# Altium footprint library PCB - CAPACITOR - ALUMINIUM - CAP ALSMD ELEC 8.3MM H10.2MM.pcblib: 1 footprints
Each footprint in its own frame and in the unit in brackets; x right, y up, seen from the top. Pads: shape width x height; smd on the part's side, far side on the other; paste and mask are expansions set on the pad; w line width, h text height; cw(c..) or ccw(c..) is an arc to the next point about the centre after c.
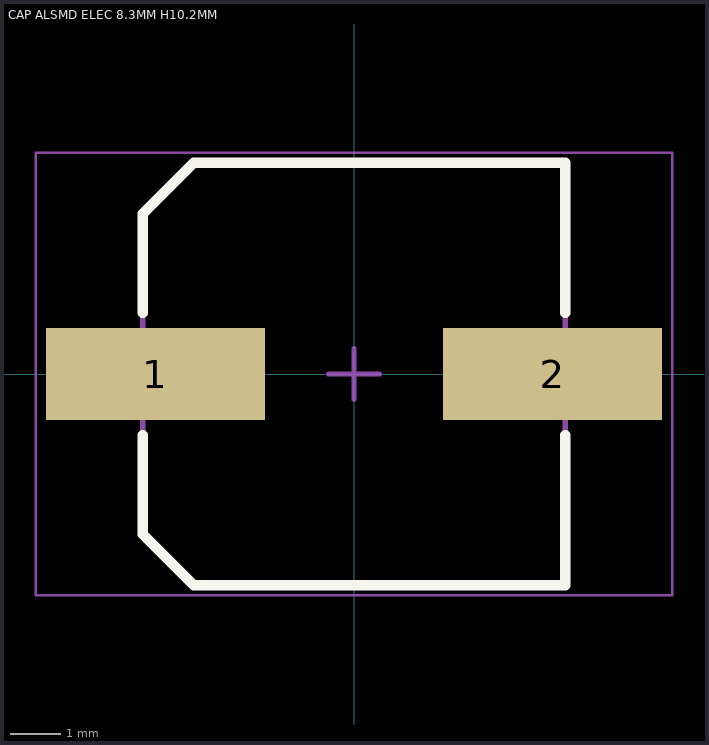
[diagram p0: the footprint, top view; thin cyan lines are the x and y axes]

## CAP ALSMD ELEC 8.3MM H10.2MM [mm] "Aluminum SMD Electrolytic Capacitor, 8.30mm Land Size, 8.00mm Diameter, 10.20mm Height, 10.00mm Maximum Leads Span"
height 0.9
pads (2):
  rect 4.3x1.8 smd: 1(-3.9,0) 2(3.9,0)
Top Overlay:
  lines w0.2: -4.15,-1.2 -4.15,-3.15 -3.15,-4.15 4.15,-4.15 4.15,-1.2 ; -4.15,1.2 -4.15,3.15 -3.15,4.15 4.15,4.15 4.15,1.2
Mechanical 13:
  lines w0.1: -4.15,-3.15 -4.15,3.15 -3.15,4.15 4.15,4.15 4.15,-4.15 -3.15,-4.15 -4.15,-3.15
Mechanical 15:
  lines w0.05: -6.25,-4.35 -6.25,4.35 6.25,4.35 6.25,-4.35 -6.25,-4.35
  lines w0.1: -0.5,0 0.5,0 ; 0,-0.5 0,0.5
3D body: height 10.2, standoff 0, extent -5,-4.15 5,4.15